# Altium footprint library Induction.PcbLib: 10 footprints
Each footprint in its own frame and in the unit in brackets; x right, y up, seen from the top. Pads: shape width x height; smd on the part's side, far side on the other; paste and mask are expansions set on the pad; w line width, h text height; cw(c..) or ccw(c..) is an arc to the next point about the centre after c.
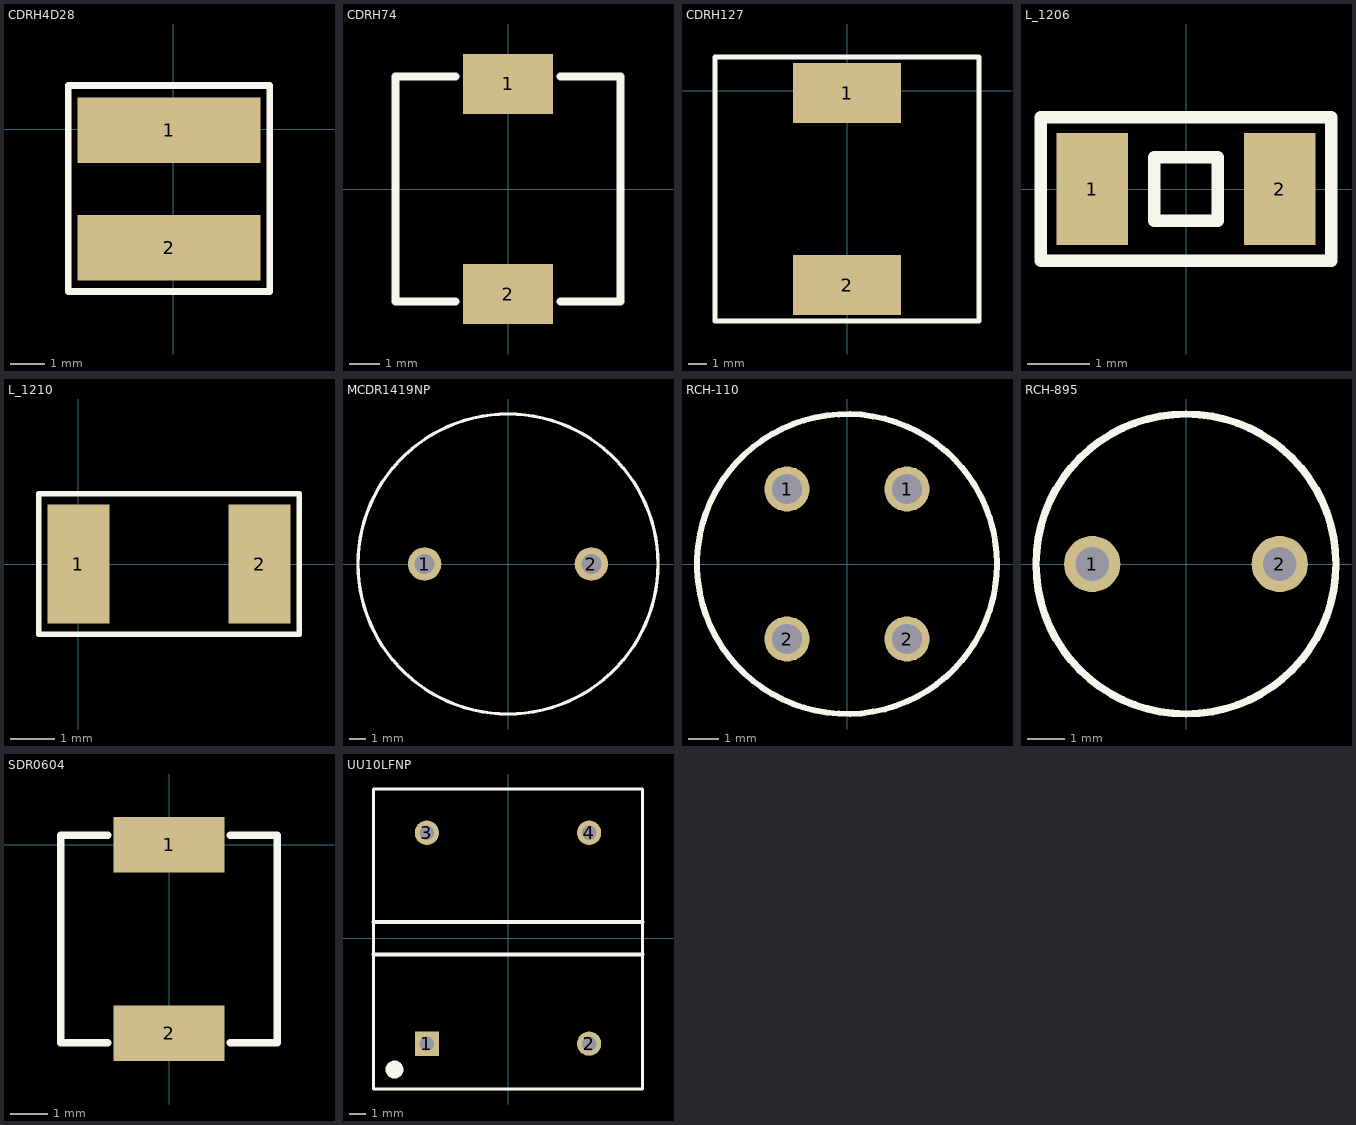
[diagram p0: the footprints below, top view; thin cyan lines are the x and y axes]

## CDRH4D28 [mm]
pads (2):
  rect 5.3x1.9 smd: 1(-0.127,-0.029) 2(-0.127,-3.429)
Top Overlay:
  lines w0.2: -3.048,-4.699 2.794,-4.699 2.794,1.27 -3.048,1.27 -3.048,-4.699

## CDRH74 [mm]
height 5
pads (2):
  rect 3x2 smd: 1(0,3.5) 2(0,-3.5)
Top Overlay:
  lines w0.254: -1.75,-3.75 -3.75,-3.75 -3.75,3.75 -1.75,3.75 ; 1.75,-3.75 3.75,-3.75 3.75,3.75 1.75,3.75

## CDRH127 [mil]
height 393.7
pads (2):
  rect 225x125 smd: 1(0,-5) 2(0,-405)
Top Overlay:
  lines w10: -275,-480 -275,70 275,70 275,-480 -275,-480

## L_1206 [mm]
height 1.524
pads (2):
  rect 1.15x1.8 smd: 1(-1.5,0) 2(1.5,0)
Top Overlay:
  lines w0.2: -2.325,-1.15 -2.325,1.15 2.325,1.15 2.325,-1.15 -2.325,-1.15 ; -0.508,-0.508 -0.508,0.508 0.508,0.508 0.508,-0.508 -0.508,-0.508
3D body: height 0.85, standoff 0, extent -1.675,-0.865 1.675,0.865

## L_1210 [mil] "Chip Inductor, 2-Leads, Body 3,1x2,5mm, IPC Medium Density"
height 100
pads (2):
  rect 55x105 smd: 1(0,0) 2(160,0)
Top Overlay:
  lines w5: -35,-62 -35,62 195,62 195,-62 -35,-62

## MCDR1419NP [mm]
pads (2):
  round 2 hole 1.2: 1(-5,0) 2(5,0)
Top Overlay:
  circle w0.2: c0,0 r9
3D body: height 20.5, standoff 0.5, extent -7,-6.99 7,6.99
3D body: height 2, standoff 0, extent -8.491,-8.497 8.5,8.498
3D body: height 21, standoff 19, extent -8.491,-8.497 8.5,8.498
3D body: height 0, standoff -3, extent -5.5,-0.5 -4.5,0.5
3D body: height 0, standoff -3, extent 4.5,-0.5 5.5,0.5

## RCH-110 [mm]
height 10
pads (4):
  round 1.5 hole 1: 1(-2,2.5) 1(2,2.5) 2(-2,-2.5) 2(2,-2.5)
Top Overlay:
  circle w0.2: c0,0 r5
3D body: height 12.13, standoff -3.87, extent -4.965,-5 5.035,5

## RCH-895 [mm] "8.3mm Max. ?, 9.5mm Max. Height"
height 9.5
pads (2):
  round 1.5 hole 0.9: 1(-2.5,0) 2(2.5,0)
Top Overlay:
  circle w0.2: c0,0 r4
3D body: height 10, standoff -4.5, extent -3.9,-3.9 3.9,3.9

## SDR0604 [mm]
pads (2):
  rect 3x1.5 smd: 1(0,0) 2(0,-5.08)
Top Overlay:
  lines w0.2: -1.651,-5.334 -2.921,-5.334 -2.921,0.254 -1.651,0.254 ; 1.651,-5.334 2.921,-5.334 2.921,0.254 1.651,0.254

## UU10LFNP [mm]
height 23
pads (4):
  rect 1.5x1.5 hole 0.9: 1(-5,-6.5)
  round 1.5 hole 0.9: 2(5,-6.5) 3(-5,6.5) 4(5,6.5)
Top Overlay:
  circle w0.7: c-7,-8.1 r0.2
  lines w0.2: -8.3,-9.3 8.3,-9.3 8.3,9.2 -8.3,9.2 -8.3,-9.3
  lines w0.254: -8.3,-1 8.3,-1 ; -8.3,1 8.3,1